# Altium schematic symbol library SCH - AUDIO- MICROPHONE UNBAL VDD GND OUT.SCHLIB: 1 symbol
Pins are listed as number, name and electrical type; pins without a type are passive.

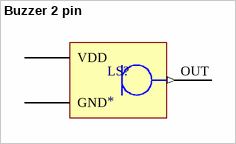
[diagram p0: symbol Buzzer 2 pin]

## Buzzer 2 pin
designator LS?
pins: G GND, OUT (out), VDD